# Altium integrated library Altium_Digital_Isolators.IntLib: 1 symbol
Pins are listed as number, name and electrical type; pins without a type are passive.

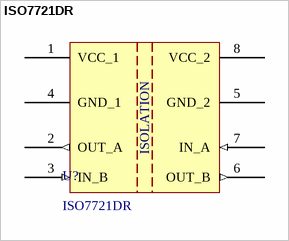
[diagram p0: symbol ISO7721DR]

## ISO7721DR
designator U?
High-Speed, Robust EMC, Reinforced Dual-Channel Digital Isolators; Manufacturer: Texas Instruments; Fall Time: 3.9 ns; Isolation Voltage: 3000 Vrms; Number of Channels: 2; Power Dissipation: 100 mW; Data Rate: 100 Mb/s; Isolation Type: Capacitive Coupling; Polarity: Unidirectional; Supply Voltage - Max: 5.5 V; Operating Supply Current: 7.3 mA; Propagation Delay Time: 17 ns; Supply Voltage - Min: 2.25 V; ComponentLink1Description: Datasheet; ComponentLink1URL: https://www.ti.com/lit/ds/symlink/iso7720.pdf?ts=1751357916054&ref_url=https%253A%252F%252Fth.mouser.com%252F; Supplier 1 URL: https://www.mouser.vn/ProductDetail/Texas-Instruments/ISO7721DR?qs=0C8XhJW8e4pvzxoLtrI8OQ%3D%3D; Supplier 2 URL: N/A; Supplier 3 URL: N/A; Value: ISO7721DR; Rise Time: 3.9 ns; Manufacturer Part Number: ISO7721DR; Mount: SMD/SMT; Operating Temperature Max: + 125 C; Operating Temperature Min: - 55 C; Package / Case: SOIC-8; Packaging: Tape and Reel; Supplier 1: Mouser; Supplier 1 Part Number: 595-ISO7721DR; Supplier 2: Digi-Key; Supplier 2 Part Number: N/A; Supplier 3: thegioiic; Supplier 3 Part Number: N/A; LCSC Part #: C366164
footprint ISO7721DR_SOIC (SOIC, 8-Leads, Body 4.76x3.90mm, Pitch 1.27mm, IPC Medium Density)
pins: 1 VCC_1, 2 OUT_A (out), 3 IN_B (in), 4 GND_1, 5 GND_2, 6 OUT_B (out), 7 IN_A (in), 8 VCC_2
text: ISOLATION